# EAGLE library part 52745-1097 (library KW2)
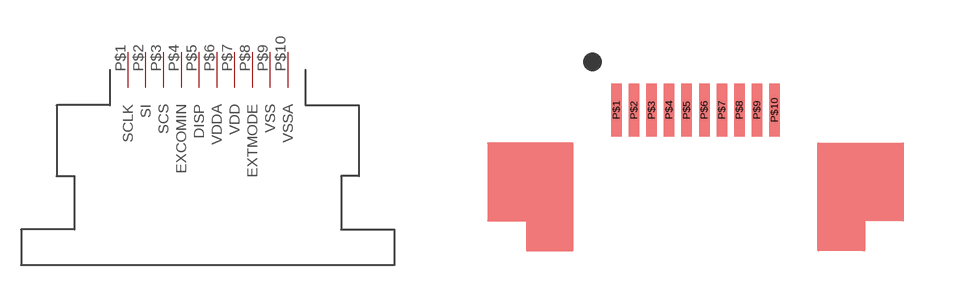
[diagram p10: symbol with the pads of 52745-1097; footprint 52745-1097]

Designator prefix -

## 52745-1097  [52745-1097]
P$1  SCLK
P$2  SI
P$3  SCS
P$4  EXCOMIN
P$5  DISP
P$6  VDDA
P$7  VDD
P$8  EXTMODE
P$9  VSS
P$10  VSSA

## Footprint 52745-1097 (pad centres in mm)
smd 0.3 x 1.5: P$1 -2.25,0.95; P$2 -1.75,0.95; P$3 -1.25,0.95; P$4 -0.75,0.95; P$5 -0.25,0.95; P$6 0.25,0.95; P$7 0.75,0.95; P$8 1.25,0.95; P$9 1.75,0.95; P$10 2.25,0.95